# EAGLE library part APDS-9301 (library SparkFun-Sensors)
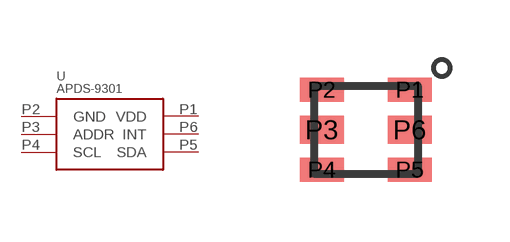
[diagram p37: symbol with the pads of CHIPLED-6; footprint CHIPLED-6]

Designator prefix U

## APDS-9301 (PROD_ID: IC-13662; VALUE: APDS-9301)  [CHIPLED-6]
P1  VDD
P2  GND
P3  ADDR
P4  SCL
P5  SDA
P6  INT

## Footprint CHIPLED-6 (pad centres in mm)
CHIPLED-6 package Used by APDS-9301
smd 1.1 x 0.6: P1 1.1,1; P2 -1.1,1; P4 -1.1,-1; P5 1.1,-1
smd 1.1 x 0.7: P3 -1.1,0; P6 1.1,0